# Altium integrated library RF.IntLib: 42 symbols
Pins are listed as number, name and electrical type; pins without a type are passive.

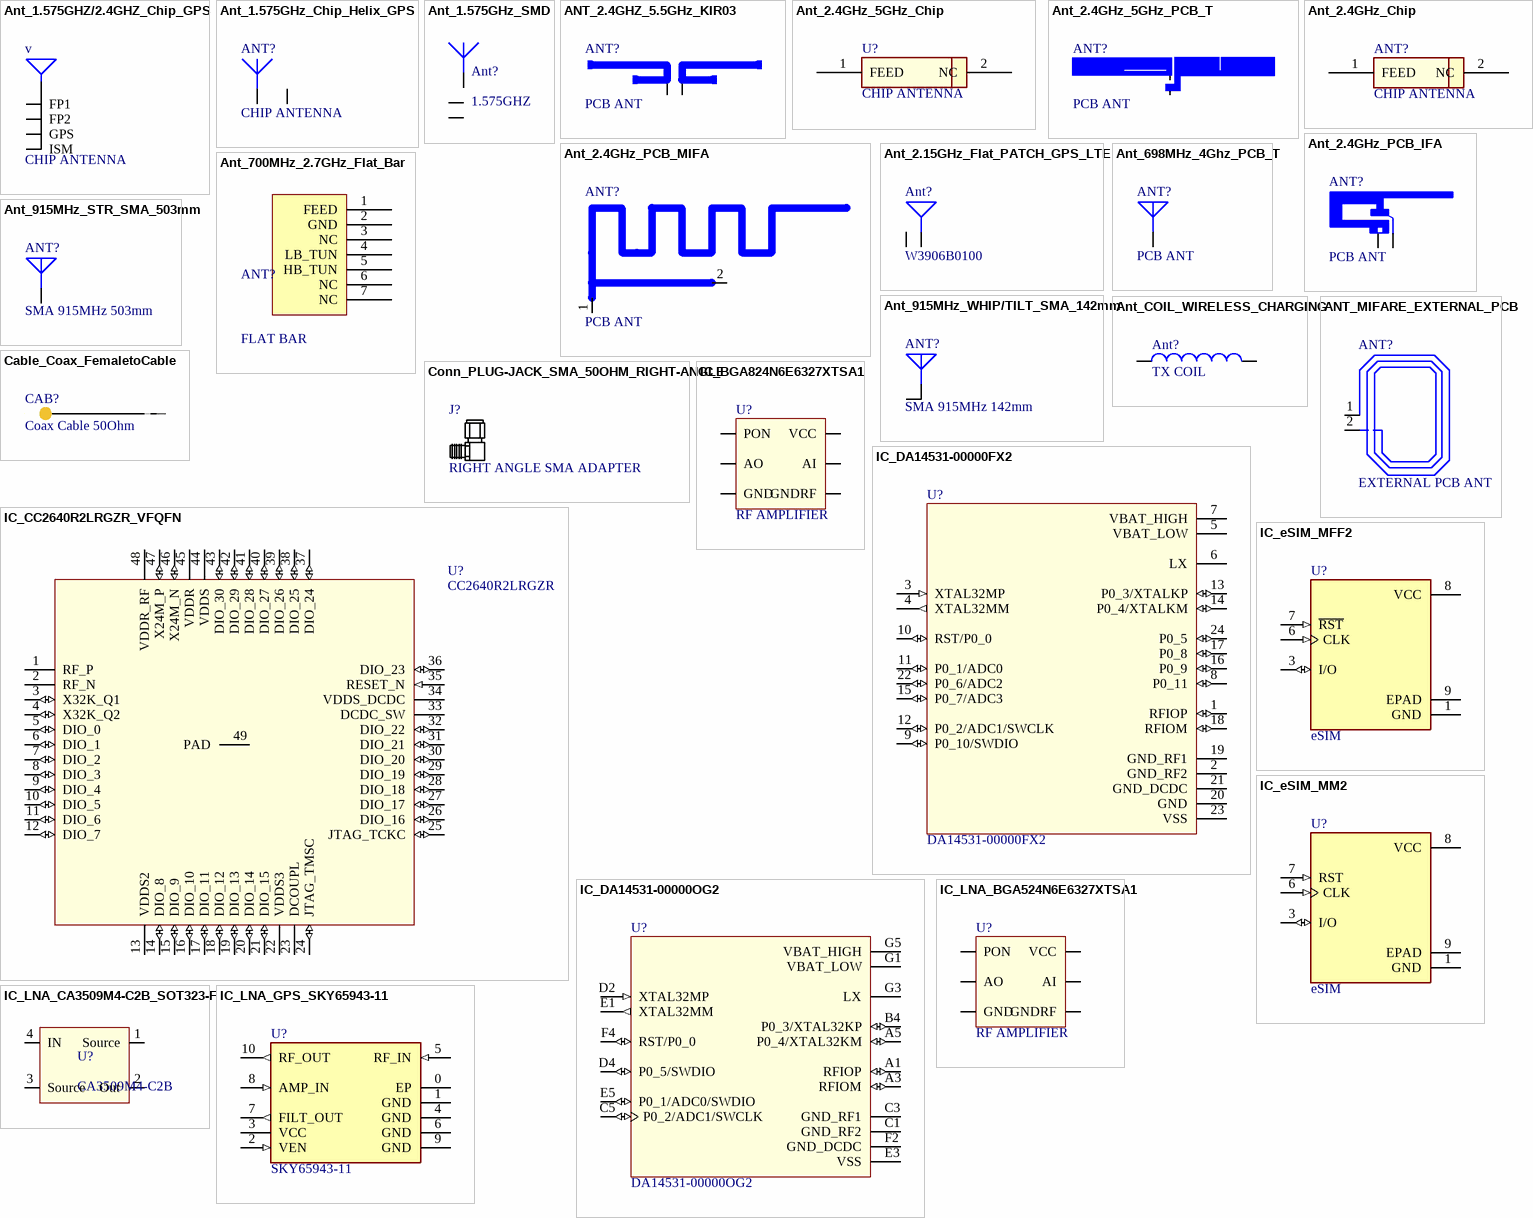
[diagram p0: symbols Ant_1.575GHZ/2.4GHZ_Chip_GPS to IC_LNA_GPS_SKY65943-11]

## Ant_1.575GHZ/2.4GHZ_Chip_GPS
designator v, comment CHIP ANTENNA
RF ANT 1.575GHZ/2.4GHZ CHIP SLD; Manufacturer: TDK Corporation; Manufacturer Part Number: ANT016008LCD1575MA1; Supplier 1: Digikey; Supplier Part Number 1: 445-15174-1-ND; Reel Stock: N/A; Last modified by: J.Jaramillo; Last modified date: 20240310; ComponentLink1Description: Digikey; ComponentLink1URL: https://www.digikey.com/en/products/detail/tdk-corporation/ANT016008LCD1575MA1/4213421?s=N4IgTCBcDaICxwKwFoCMjUHY5uQOQBEQBdAXyA
footprint Ant_1.575GHZ/2.4GHZ_Chip_GPS (/20210422/C-D Viveros)
pins: 1 GPS, 2 FP1, 3 FP2, 4 ISM

## Ant_1.575GHz_Chip_Helix_GPS
designator ANT?, comment CHIP ANTENNA
RF ANT 1.575GHZ MOLDED SLDR SMD; Manufacturer: Molex; Manufacturer Part Number: 1462350001; Supplier 1: Digikey; Supplier Part Number 1: WM15009CT-ND; Reel Stock: N/A; Last modified by: J.Jaramillo; Last modified date: 20240310; ComponentLink1Description: Digikey; ComponentLink1URL: https://www.digikey.com/en/products/detail/molex/1462350001/6159253?s=N4IgTCBcDaIIwBYBsYDMBWADNuIC6AvkA
footprint ANT_1.575GHz_Chip_Helix_GPS (/20201007/J-E.Pachon)
pins: 0 SP, 1

## Ant_1.575GHz_SMD
designator Ant?, comment 1.575GHZ
IC_LNA_CA3509M4-C2B_SOT323-F; Manufacturer: Abracon LLC; Manufacturer Part Number: ACAG0301-1575-T; Supplier 1: Digi-Key; Supplier Part Number 1: 535-14486-1-ND; Reel Stock: N/A; Last modified by: J.Jaramillo; Last modified date: 20240310; ComponentLink1Description: Digi-Key; ComponentLink1URL: https://www.digikey.com/en/products/detail/abracon-llc/ACAG0301-1575-T/8593241
footprint ANT_1.575GHz_SMD (20230919/J-E.Pachon)
pins: 1, 2, 3

## ANT_2.4GHZ_5.5GHz_KIR03
designator ANT?, comment PCB ANT  (no BOM)
Antenna dual band KIR03; Reel Stock: N/A; Last modified by: J.Jaramillo; Last modified date: 20240310
footprint ANT_2.4GHZ_5.5GHz_KIR03 (/20220325/V-A.Patino)
pins: 1 GND, 2 ANT

## Ant_2.4GHz_5GHz_Chip
designator U?, comment CHIP ANTENNA
RF ANT 2.4GHZ/5.5GHZ CHIP SLD; Manufacturer: PulseLarsen Antennas; Manufacturer Part Number: W3006; Supplier 1: Digi-Key; Supplier Part Number 1: 553-1673-1-ND; Reel Stock: N/A; Last modified by: J.Jaramillo; Last modified date: 20240310; ComponentLink1Description: Digi-Key; ComponentLink1URL: https://www.digikey.com/products/en?keywords=553-1673-1-ND
footprint ANT_W3006_2.4GHz_5GHz (/20200812/M-C.Calderon)
pins: 1 FEED, 2 NC

## Ant_2.4GHz_5GHz_PCB_T
designator ANT?, comment PCB ANT  (no BOM)
T Antenna; Reel Stock: N/A; Last modified by: J.Jaramillo; Last modified date: 20240310
footprint ANT_T_2.4GHZ_5.5GHz_Yageo (/ 20200619 / N-A.Potosi)
pins: 1 ANT, 2 GND

## Ant_2.4GHz_Chip
designator ANT?, comment CHIP ANTENNA
2.4GHz  Chip RF Antenna 2.4GHz ~ 2.48GHz 0.5dBi Solder Surface Mount; Manufacturer: Johanson Technology Inc.; Manufacturer Part Number: 2450AT14A0100T; Supplier 1: Digi-Key; Supplier Part Number 1: 712-1636-1-ND; Last Modified by: J.Jaramillo; Last modified date: 20240310; Reel Stock: N/A; ComponentLink1Description: Digikey; ComponentLink1URL: https://www.digikey.com/en/products/detail/johanson-technology-inc/2450AT14A0100T/7943534
footprint ANT_2.4GHZ_CHIP (/20210113/J-E.Pachon)
pins: 1 FEED, 2 NC

## Ant_2.4GHz_PCB_IFA
designator ANT?, comment PCB ANT
IFA antenna designed by TI notes; Reel Stock: N/A; Last modified by: J.Jaramillo; Last modified date: 20240310
footprint ANT_IFA_2.4GHZ_TI
pins: 1 GND, 2 ANT

## Ant_2.4GHz_PCB_MIFA
designator ANT?, comment PCB ANT
MIFA antenna designed by CYPRESS notes; Reel Stock: N/A; Last modified by: J.Jaramillo; Last modified date: 20240310; ComponentLink1Description: Design notes; ComponentLink1URL: https://www.cypress.com/file/136236/download
footprint ANT_MIFA_2.4GHz (/20191204/C-A.Serna.A)
pins: 1, 2

## Ant_2.15GHz_Flat_PATCH_GPS_LTE
designator Ant?, comment W3906B0100  (mechanical)
RF ANT 2.15GHZ FLAT PATCH CAB; Manufacturer: PulseLarsen Antennas; Manufacturer Part Number: W3906B0100; Supplier 1: Digi-Key; Supplier Part Number 1: 1837-1002-ND; Reel Stock: N/A; Last modified by: J.Jaramillo; Last modified date: 20240310; ComponentLink1Description: Digi-Key; ComponentLink1URL: https://www.digikey.com/en/products/detail/W3906B0100/1837-1002-ND/7667473?curr=usd&utm_campaign=buynow&utm_medium=aggregator&utm_source=octopart
pins: 1 GPS, 2 LTE

## Ant_698MHz_4Ghz_PCB_T
designator ANT?, comment PCB ANT  (mechanical)
698 - 4000MHZ FLEXIBLE ANTENNA 1; Manufacturer: Molex; Manufacturer Part Number: 2091420180; Supplier 1: Digikey; Supplier Part Number 1: WM26399-ND; Reel Stock: N/A; Last modified by: J.Jaramillo; Last modified date: 20240310; ComponentLink1Description: Digikey; ComponentLink1URL: https://www.digikey.com/en/products/detail/molex/2091420180/10057542
pins: 30

## Ant_700MHz_2.7GHz_Flat_Bar
designator ANT?, comment FLAT BAR
RF ANT 700MHZ/750MHZ FLAT BAR; Manufacturer: Ethertronics/AVX; Manufacturer Part Number: P822601; Last modified by: J.Jaramillo; Last modified date: 20240310; Supplier 1: Digi-Key; Supplier Part Number 1: 478-P822601CT-ND; Reel Stock: N/A; ComponentLink1Description: Digikey; ComponentLink1URL: https://www.digikey.com/en/products/detail/ethertronics-avx/P822601/5452864
footprint ANT_700MHz_2.7GHz_Flat_Bar (/20201007/J-E.Pachon)
pins: 1 FEED, 2 GND, 3 NC, 4 LB_TUN, 5 HB_TUN, 6 NC, 7 NC

## Ant_915MHz_STR_SMA_503mm
designator ANT?, comment SMA 915MHz 503mm  (mechanical)
RF ANT 915MHZ WHIP STR SMA MALE; Manufacturer: Nearson Inc.; Manufacturer Part Number: S469AM-915; Supplier 1: Digi-key; Supplier Part Number 1: 730-1055-ND; Reel Stock: N/A; Last modified by: J.Jaramillo; Last modified date: 20240310; ComponentLink1Description: Design notes; ComponentLink1URL: https://www.digikey.com/product-detail/en/nearson-inc/S469AM-915/730-1055-ND/4571857

## Ant_915MHz_WHIP/TILT_SMA_142mm
designator ANT?, comment SMA 915MHz 142mm  (mechanical)
RF ANT 916MHZ WHIP TILT SMA MALE; Manufacturer: Linx Technologies Inc.; Manufacturer Part Number: ANT-916-CW-HWR-SMA; Supplier 1: Digi-key; Supplier Part Number 1: ANT-916-CW-HWR-SMA-ND; Reel Stock: N/A; Last modified by: J.Jaramillo; Last modified date: 20240310; ComponentLink1Description: Design notes; ComponentLink1URL: https://www.digikey.com/products/en?keywords=ANT-916-CW-HWR-SMA-ND

## Ant_COIL_WIRELESS_CHARGING
designator Ant?, comment TX COIL
TX 1 COIL, 1 LYR 10.5UH; Manufacturer: TDK Corporation; Manufacturer Part Number: WT525225-12F2-MA2-G; Supplier 1: Digi-Key; Supplier Part Number 1: 445-175301-ND; Reel Stock: N/A; Last modified by: J.Jaramillo; Last modified date: 20240310; ComponentLink1Description: Digi-Key; ComponentLink1URL: https://www.digikey.com/en/products/detail/tdk-corporation/WT525225-12F2-MA2-G/8019497?s=N4IgTCBcDaIOoBUCsYWoLQEYwDEzoFkBBfAcRAF0BfIA
footprint Ant_COIL_WIRELESS_CHARGING (20220805 / E.Naranjo)
pins: LX1, LX2

## ANT_MIFARE_EXTERNAL_PCB
designator ANT?, comment EXTERNAL PCB ANT  (mechanical)
EXTERNAL PCB ATENNA MIFARE V1R2; Reel Stock: N/A; Last modified by: J.Jaramillo; Last modified date: 20240310
footprint ANT_MIFARE_PCB
pins: 1, 2

## Cable_Coax_FemaletoCable
designator CAB?, comment Coax Cable 50Ohm  (mechanical)
IPEX FOR 1.13 CABLE ASSY 120mm; Manufacturer: Xin xiang lu electronic; Manufacturer Part Number: YS030-0017; Supplier 1: Poshton; Supplier Part Number 1: YS030-0017; Reel Stock: N/A; Last modified by: J.Jaramillo; Last modified date: 20240310

## Conn_PLUG-JACK_SMA_50OHM_RIGHT-ANGLE
designator J?, comment RIGHT ANGLE SMA ADAPTER  (mechanical)
CONN ADAPT PLUG-JACK SMA 50 OHM; Manufacturer: RF Solutions; Manufacturer Part Number: ADP-SMAM-SMAF90; Supplier 1: Digi-key; Supplier Part Number 1: ADP-SMAM-SMAF90-ND; Reel Stock: N/A; Last modified by: J.Jaramillo; Last modified date: 20240310; ComponentLink1Description: Design notes; ComponentLink1URL: https://www.digikey.com/products/en?keywords=ANT-916-CW-HWR-SMA-ND

## IC_BGA824N6E6327XTSA1
designator U?, comment RF AMPLIFIER
IC AMP GALIL 1.55-1.615GHZ TSNP6; Manufacturer: Infineon Technologies; Manufacturer Part Number: BGA824N6E6327XTSA1; Last modified by: J.Jaramillo; Last modified date: 20240310; Supplier 1: Digikey; Supplier Part Number 1: BGA824N6E6327XTSA1CT-ND; Reel Stock: N/A; ComponentLink1Description: Digikey; ComponentLink1URL: https://www.digikey.com/en/products/detail/infineon-technologies/BGA824N6E6327XTSA1/4759555
footprint TSNP-6-2_0.7x1.1MM (TSNP-6-2/20210524/J-E.Pachon)
pins: 1 GND, 2 VCC, 3 AO, 4 GNDRF, 5 AI, 6 PON

## IC_CC2640R2LRGZR_VFQFN
designator U?, comment CC2640R2LRGZR
SIMPLELINK BLUETOOTH 5.1 LOW ENE; Manufacturer: Texas Instruments; Reel Stock: N/A; Last modified by: J.Jaramillo; Last modified date: 20240310; ComponentLink1Description: Digi-Key; ComponentLink1URL: https://www.digikey.com/en/products/detail/texas-instruments/CC2640R2LRGZR/12642196?s=N4IgTCBcDaIMJzANgCwAYBKYAyGDiAWhiALoC%2BQA; Supplier 1: Digi-Key; Manufacturer Part Number: CC2640R2LRGZR; Supplier Part Number 1: 296-CC2640R2LRGZRCT-ND
footprint VQFN_48_7X7MM (48-VFQFN Exposed Pad/ 20210323 / N-A.Potosi)
pins: 1 RF_P (power), 2 RF_N (power), 3 X32K_Q1 (io), 4 X32K_Q2 (io), 5 DIO_0 (io), 6 DIO_1 (io), 7 DIO_2 (io), 8 DIO_3 (io), 9 DIO_4 (io), 10 DIO_5 (io), 11 DIO_6 (io), 12 DIO_7 (io), 13 VDDS2 (power), 14 DIO_8 (io), 15 DIO_9 (io), 16 DIO_10 (io), 17 DIO_11 (io), 18 DIO_12 (io), 19 DIO_13 (io), 20 DIO_14 (io), 21 DIO_15 (io), 22 VDDS3 (power), 23 DCOUPL (power), 24 JTAG_TMSC (io), 25 JTAG_TCKC (io), 26 DIO_16 (io), 27 DIO_17 (io), 28 DIO_18 (io), 29 DIO_19 (io), 30 DIO_20 (io), 31 DIO_21 (io), 32 DIO_22 (io), 33 DCDC_SW (power), 34 VDDS_DCDC (power), 35 RESET_N (in), 36 DIO_23 (io), 37 DIO_24 (io), 38 DIO_25 (io), 39 DIO_26 (io), 40 DIO_27 (io), 41 DIO_28 (io), 42 DIO_29 (io), 43 DIO_30 (io), 44 VDDS (power), 45 VDDR (power), 46 X24M_N (io), 47 X24M_P (io), 48 VDDR_RF (power), 49 PAD (power)

## IC_DA14531-00000FX2
designator U?, comment DA14531-00000FX2
BLE 5.1 SOC WITH ARM CORTEX M0+; Manufacturer: Dialog Semiconductor GmbH; Manufacturer Part Number: DA14531-00000FX2; Supplier 1: Digi-Key; Supplier Part Number 1: 1695-DA14531-00000FX2CT-ND; Last modified by: J.Jaramillo; Last modified date: 20240310; Reel Stock: N/A; ComponentLink1Description: Digi-Key; ComponentLink1URL: https://www.digikey.com/en/products/detail/dialog-semiconductor-gmbh/DA14531-00000FX2/10474881
footprint FCGQFN-24_2.2X3MM (/20210621/J-E.Pachon)
pins: 1 RFIOP (io), 2 GND_RF2, 3 XTAL32MP (in), 4 XTAL32MM (out), 5 VBAT_LOW, 6 LX, 7 VBAT_HIGH, 8 P0_11 (io), 9 P0_10/SWDIO (io), 10 RST/P0_0 (io), 11 P0_1/ADC0 (io), 12 P0_2/ADC1/SWCLK (io), 13 P0_3/XTALKP (io), 14 P0_4/XTALKM (io), 15 P0_7/ADC3 (io), 16 P0_9 (io), 17 P0_8 (io), 18 RFIOM (io), 19 GND_RF1, 20 GND, 21 GND_DCDC, 22 P0_6/ADC2 (io), 23 VSS, 24 P0_5 (io)

## IC_DA14531-00000OG2
designator U?, comment DA14531-00000OG2
BLE 5.1 SOC WITH ARM CORTEX M0+; Manufacturer: Dialog Semiconductor GmbH; Manufacturer Part Number: DA14531-00000OG2; Supplier 1: Digi-key; Supplier Part Number 1: 1695-DA14531-00000OG2TR-ND; Last modified by: J.Jaramillo; Last modified date: 20240310; ComponentLink1Description: Digi-Key; ComponentLink1URL: https://www.digikey.com/en/products/detail/dialog-semiconductor-gmbh/DA14531-00000OG2/10474922?s=N4IgTCBcDaICIEECMAWArAZiQWgAz-wHkBxCAXQF8g; Reel Stock: N/A
footprint XFBGA_17_2.032x1.694MM (17-WLCSP/ 20210524 / J-E.Pachon)
pins: A1 RFIOP (io), A3 RFIOM (io), A5 P0_4/XTAL32KM (io), B4 P0_3/XTAL32KP (io), C1 GND_RF2 (power), C3 GND_RF1 (power), C5 P0_2/ADC1/SWCLK (io), D2 XTAL32MP (in), D4 P0_5/SWDIO (io), E1 XTAL32MM (out), E3 VSS (power), E5 P0_1/ADC0/SWDIO (io), F2 GND_DCDC (power), F4 RST/P0_0 (io), G1 VBAT_LOW (power), G3 LX, G5 VBAT_HIGH (power)

## IC_eSIM_MFF2
designator U?, comment eSIM
MFF2 SIM FOR LTE-M IOT; Manufacturer: Truphone Limited; Manufacturer Part Number: SIM-S-IO3-MFF2-2-LP; Supplier 1: Digi-key; Supplier Part Number 1: 2322-SIM-S-IO3-MFF2-2-LPCT-ND; Last modified by: J.Jaramillo; Last modified date: 20240310; ComponentLink1Description: Datasheet; ComponentLink1URL: https://www.digikey.com/en/products/detail/truphone-limited/SIM-S-IO3-MFF2-2-LP/11568182?s=N4IgTCBcDaIMoEkCyBaOKEHkDMKkDF8wViAZABRAF0BfIA; Reel Stock: N/A
footprint QFN8_6x5MM_SIM (/20210524/ J-E.Pachon)
pins: 1 GND (power), 3 I/O (io), 6 CLK (in), 7 ~{RST} (in), 8 VCC (power), 9 EPAD

## IC_eSIM_MM2
designator U?, comment eSIM
EUICC MFF2 SIM WITH GLOBAL SIM P; Manufacturer: Hologram, Inc.; Manufacturer Part Number: SIM-E-MFF2-GL; Supplier 1: Digi-key; Supplier Part Number 1: 1887-SIM-E-MFF2-GLCT-ND; Last modified by: J.Jaramillo; Last modified date: 20240310; ComponentLink1Description: Datasheet; ComponentLink1URL: https://www.digikey.com/en/products/detail/hologram-inc/SIM-E-MFF2-GL/12458891; Reel Stock: N/A
footprint QFN8_6x5MM_SIM (/20210524/ J-E.Pachon)
pins: 1 GND (power), 3 I/O (io), 6 CLK (in), 7 RST (in), 8 VCC (power), 9 EPAD

## IC_LNA_BGA524N6E6327XTSA1
designator U?, comment RF AMPLIFIER
IC AMP GPS 1.55-1.615GHZ TSNP6-2; Manufacturer: Infineon Technologies; Manufacturer Part Number: BGA524N6E6327XTSA1; Last modified by: J.Jaramillo; Last modified date: 20240310; Supplier 1: Digikey; Supplier Part Number 1: BGA524N6E6327XTSA1CT-ND; Reel Stock: N/A; ComponentLink1Description: Digikey; ComponentLink1URL: https://www.digikey.com/en/products/detail/infineon-technologies/BGA524N6E6327XTSA1/4759552?s=N4IgTCBcDaIEIHECCBWMAWAcgNgKLYGYwB2ADQBUBlJARhAF0BfIA
footprint TSNP-6-2_0.7x1.1MM (TSNP-6-2/20210524/J-E.Pachon)
pins: 1 GND, 2 VCC, 3 AO, 4 GNDRF, 5 AI, 6 PON

## IC_LNA_CA3509M4-C2B_SOT323-F
designator U?, comment CA3509M4-C2B
IC AMP BEIDOU 1.575GHZ 4SUPMIN; Manufacturer: CEL; Manufacturer Part Number: CA3509M4-C2B; Supplier 1: Digi-Key; Supplier Part Number 1: CA3509M4-C2BCT-ND; Reel Stock: N/A; Last modified by: J.Jaramillo; Last modified date: 20240310; ComponentLink1Description: Digi-Key; ComponentLink1URL: https://www.digikey.com/en/products/detail/cel/CA3509M4-C2B/10129392
footprint SOT-343-F (20230919/J-E.Pachon)
pins: 1 Source, 2 Out, 3 Source, 4 IN

## IC_LNA_GPS_SKY65943-11
designator U?, comment SKY65943-11
GPS LNA MODULE; Manufacturer: Skyworks Solutions Inc.; Manufacturer Part Number: SKY65943-11; Supplier 1: Digi-Key; Supplier Part Number 1: 863-2032-1-ND; Reel Stock: N/A; Last modified by: J.Jaramillo; Last modified date: 20240310; ComponentLink1Description: Digi-Key; ComponentLink1URL: https://www.digikey.com/en/products/detail/skyworks-solutions-inc/SKY65943-11/9603434
footprint MCM-10_2.5x2.5mm (/20220615/V-A.Patino)
pins: 0 EP, 1 GND, 2 VEN (in), 3 VCC, 4 GND, 5 RF_IN (in), 6 GND, 7 FILT_OUT (out), 8 AMP_IN (in), 9 GND, 10 RF_OUT (out)

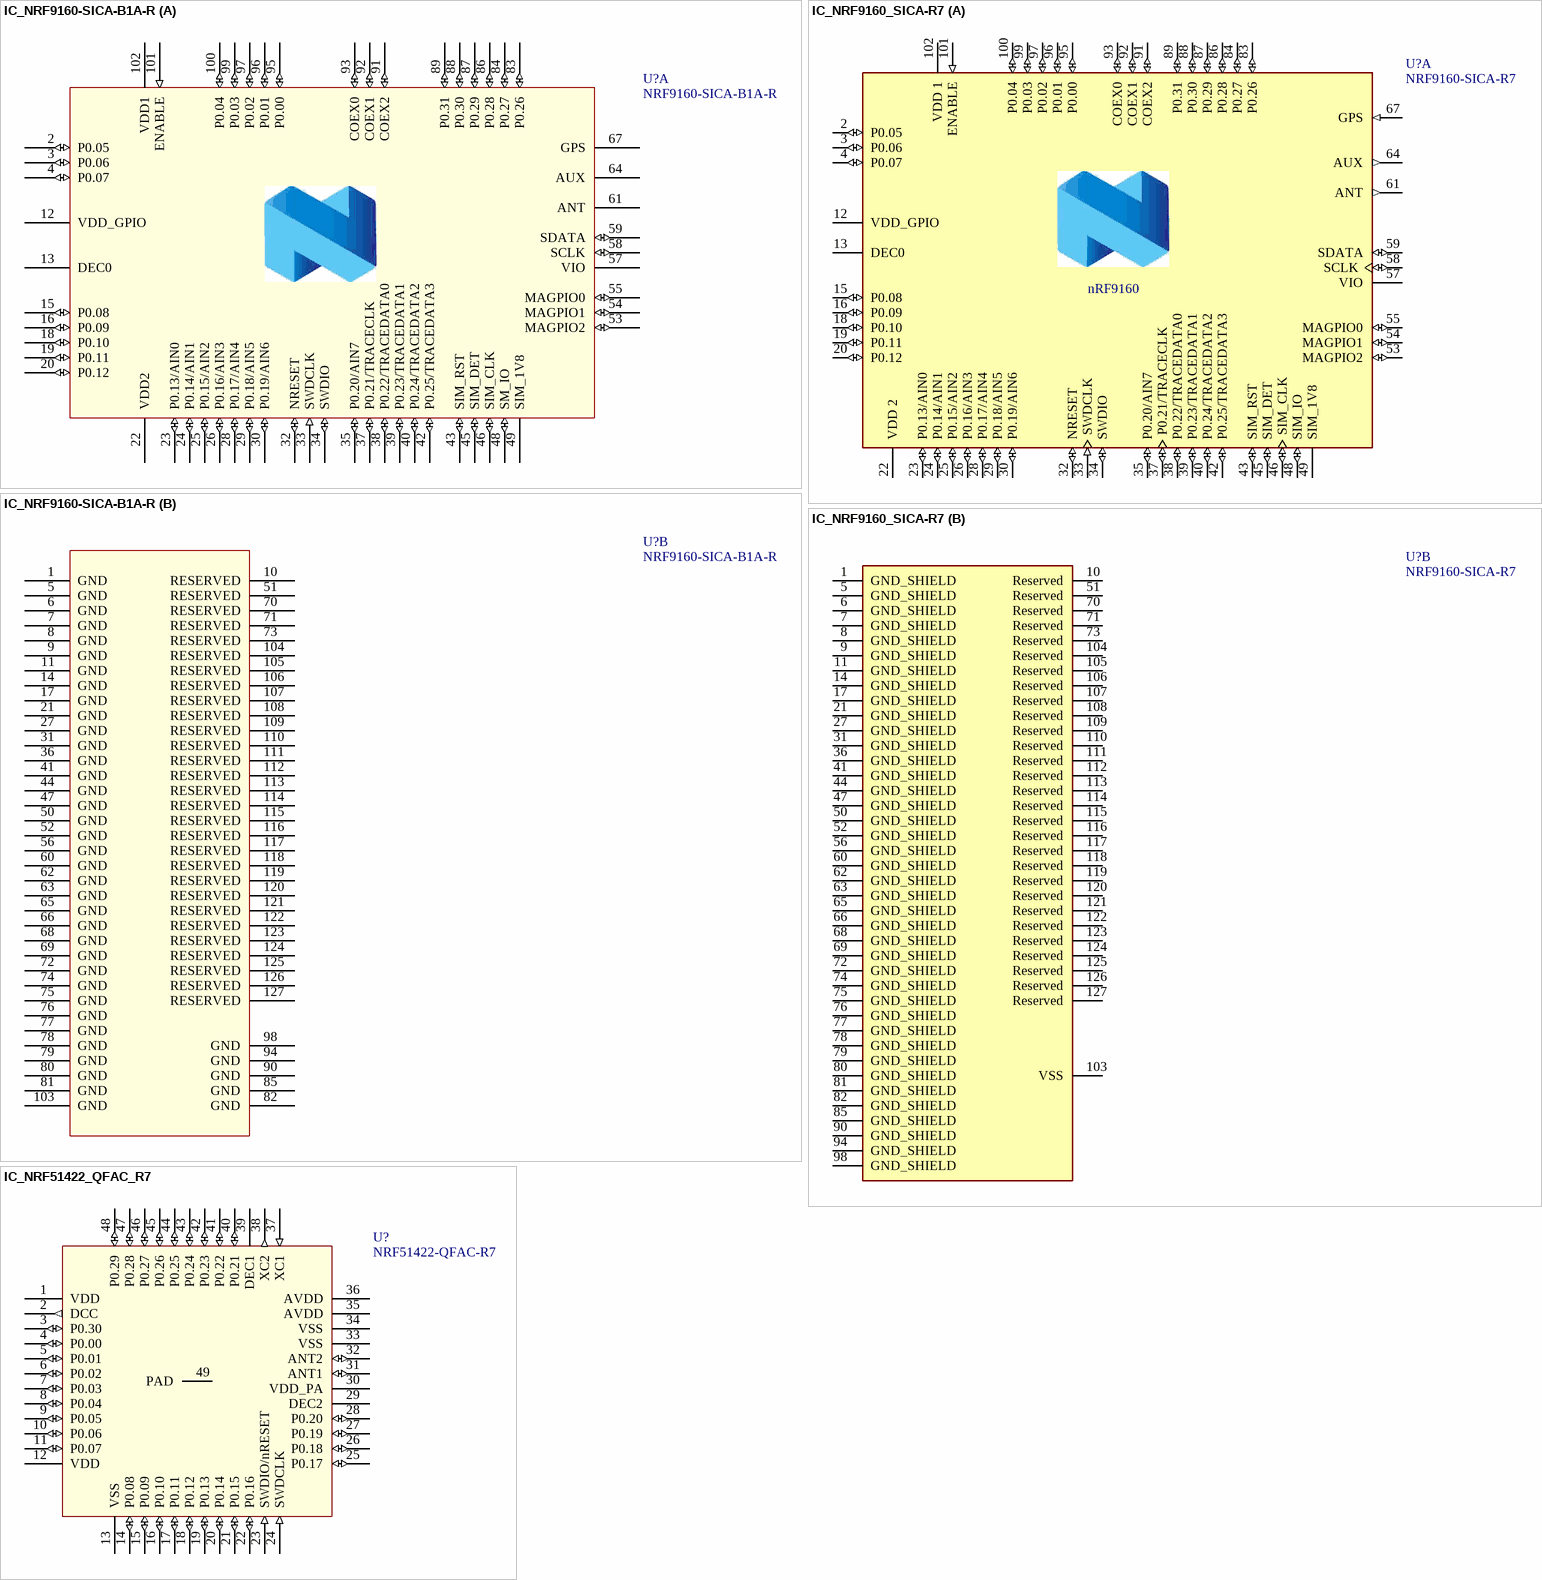
[diagram p1: symbols IC_NRF9160-SICA-B1A-R to IC_NRF51422_QFAC_R7]

## IC_NRF9160-SICA-B1A-R
designator U?, comment NRF9160-SICA-B1A-R
IC RF TXRX+MCU CELL LTE-M/NB-IOT; Manufacturer: Nordic Semiconductor ASA; Manufacturer Part Number: NRF9160-SICA-B1A-R; Supplier 1: Digi-Key; Supplier Part Number 1: 1490-NRF9160-SICA-B1A-RCT-ND; Reel Stock: N/A; Last modified by: J.Jaramillo; Last modified date: 20240310; ComponentLink1Description: Digi-Key; ComponentLink1URL: https://www.digikey.com/en/products/detail/nordic-semiconductor-asa/NRF9160-SICA-B1A-R/13533595
footprint TFLGA-16_NRF9160 (TFLGA-16_127-LGA (16x10.5) /20201016/N-A.Potosi)
part A pins: 2 P0.05 (io), 3 P0.06 (io), 4 P0.07 (io), 12 VDD_GPIO (power), 13 DEC0 (power), 15 P0.08 (io), 16 P0.09 (io), 18 P0.10 (io), 19 P0.11 (io), 20 P0.12 (io), 22 VDD2 (power), 23 P0.13/AIN0 (io), 24 P0.14/AIN1 (io), 25 P0.15/AIN2 (io), 26 P0.16/AIN3 (io), 28 P0.17/AIN4 (io), 29 P0.18/AIN5 (io), 30 P0.19/AIN6 (io), 32 NRESET (io), 33 SWDCLK (in), 34 SWDIO (io), 35 P0.20/AIN7 (io), 37 P0.21/TRACECLK (io), 38 P0.22/TRACEDATA0 (io), 39 P0.23/TRACEDATA1 (io), 40 P0.24/TRACEDATA2 (io), 42 P0.25/TRACEDATA3 (io), 43 SIM_RST (io), 45 SIM_DET (io), 46 SIM_CLK (io), 48 SM_IO (io), 49 SIM_1V8 (power), 53 MAGPIO2 (io), 54 MAGPIO1 (io), 55 MAGPIO0 (io), 57 VIO (power), 58 SCLK (io), 59 SDATA (io), 61 ANT, 64 AUX, 67 GPS, 83 P0.26 (io), 84 P0.27 (io), 86 P0.28 (io), 87 P0.29 (io), 88 P0.30 (io), 89 P0.31 (io), 91 COEX2 (io), 92 COEX1 (io), 93 COEX0 (io), 95 P0.00 (io), 96 P0.01 (io), 97 P0.02 (io), 99 P0.03 (io), 100 P0.04 (io), 101 ENABLE (in), 102 VDD1 (power)
part B pins: 1 GND, 5 GND, 6 GND, 7 GND, 8 GND, 9 GND, 10 RESERVED, 11 GND, 14 GND, 17 GND, 21 GND, 27 GND, 31 GND, 36 GND, 41 GND, 44 GND, 47 GND, 50 GND, 51 RESERVED, 52 GND, 56 GND, 60 GND, 62 GND, 63 GND, 65 GND, 66 GND, 68 GND, 69 GND, 70 RESERVED, 71 RESERVED, 72 GND, 73 RESERVED, 74 GND, 75 GND, 76 GND, 77 GND, 78 GND, 79 GND, 80 GND, 81 GND, 82 GND, 85 GND, 90 GND, 94 GND, 98 GND, 103 GND, 104 RESERVED, 105 RESERVED, 106 RESERVED, 107 RESERVED, 108 RESERVED, 109 RESERVED, 110 RESERVED, 111 RESERVED, 112 RESERVED, 113 RESERVED, 114 RESERVED, 115 RESERVED, 116 RESERVED, 117 RESERVED, 118 RESERVED, 119 RESERVED, 120 RESERVED, 121 RESERVED, 122 RESERVED, 123 RESERVED, 124 RESERVED, 125 RESERVED, 126 RESERVED, 127 RESERVED

## IC_NRF9160_SICA-R7
designator U?, comment NRF9160-SICA-R7
IC RF TXRX+MCU CELL LTE-M/NB-IOT; Manufacturer: Nordic Semiconductor ASA; Reel Stock: N/A; Last modified by: J.Jaramillo; Last modified date: 20240310; ComponentLink1Description: Digi-Key; ComponentLink1URL: https://www.digikey.com/product-detail/en/nordic-semiconductor-asa/NRF9160-SICA-R7/1490-1076-1-ND/10242086; Supplier 1: Digi-Key; Manufacturer Part Number: NRF9160-SICA-R7; Supplier Part Number 1: 1490-1076-1-ND
footprint TFLGA-16_NRF9160 (TFLGA-16_127-LGA (16x10.5) /20201016/N-A.Potosi)
part A pins: 2 P0.05 (io), 3 P0.06 (io), 4 P0.07 (io), 12 VDD_GPIO (power), 13 DEC0 (power), 15 P0.08 (io), 16 P0.09 (io), 18 P0.10 (io), 19 P0.11 (io), 20 P0.12 (io), 22 VDD 2 (power), 23 P0.13/AIN0 (io), 24 P0.14/AIN1 (io), 25 P0.15/AIN2 (io), 26 P0.16/AIN3 (io), 28 P0.17/AIN4 (io), 29 P0.18/AIN5 (io), 30 P0.19/AIN6 (io), 32 NRESET (io), 33 SWDCLK (in), 34 SWDIO (io), 35 P0.20/AIN7 (io), 37 P0.21/TRACECLK (io), 38 P0.22/TRACEDATA0 (io), 39 P0.23/TRACEDATA1 (io), 40 P0.24/TRACEDATA2 (io), 42 P0.25/TRACEDATA3 (io), 43 SIM_RST (io), 45 SIM_DET (io), 46 SIM_CLK (io), 48 SIM_IO (io), 49 SIM_1V8 (power), 53 MAGPIO2 (io), 54 MAGPIO1 (io), 55 MAGPIO0 (io), 57 VIO (power), 58 SCLK (io), 59 SDATA (io), 61 ANT (out), 64 AUX (out), 67 GPS (in), 83 P0.26 (io), 84 P0.27 (io), 86 P0.28 (io), 87 P0.29 (io), 88 P0.30 (io), 89 P0.31 (io), 91 COEX2 (io), 92 COEX1 (io), 93 COEX0 (io), 95 P0.00 (io), 96 P0.01 (io), 97 P0.02 (io), 99 P0.03 (io), 100 P0.04 (io), 101 ENABLE (in), 102 VDD 1 (power)
part B pins: 1 GND_SHIELD (power), 5 GND_SHIELD (power), 6 GND_SHIELD (power), 7 GND_SHIELD (power), 8 GND_SHIELD (power), 9 GND_SHIELD (power), 10 Reserved (power), 11 GND_SHIELD (power), 14 GND_SHIELD (power), 17 GND_SHIELD (power), 21 GND_SHIELD (power), 27 GND_SHIELD (power), 31 GND_SHIELD (power), 36 GND_SHIELD (power), 41 GND_SHIELD (power), 44 GND_SHIELD (power), 47 GND_SHIELD (power), 50 GND_SHIELD (power), 51 Reserved (power), 52 GND_SHIELD (power), 56 GND_SHIELD (power), 60 GND_SHIELD (power), 62 GND_SHIELD (power), 63 GND_SHIELD (power), 65 GND_SHIELD (power), 66 GND_SHIELD (power), 68 GND_SHIELD (power), 69 GND_SHIELD (power), 70 Reserved (power), 71 Reserved (power), 72 GND_SHIELD (power), 73 Reserved (power), 74 GND_SHIELD (power), 75 GND_SHIELD (power), 76 GND_SHIELD (power), 77 GND_SHIELD (power), 78 GND_SHIELD (power), 79 GND_SHIELD (power), 80 GND_SHIELD (power), 81 GND_SHIELD (power), 82 GND_SHIELD (power), 85 GND_SHIELD (power), 90 GND_SHIELD (power), 94 GND_SHIELD (power), 98 GND_SHIELD (power), 103 VSS (power), 104 Reserved (power), 105 Reserved (power), 106 Reserved (power), 107 Reserved (power), 108 Reserved (power), 109 Reserved (power), 110 Reserved (power), 111 Reserved (power), 112 Reserved (power), 113 Reserved (power), 114 Reserved (power), 115 Reserved (power), 116 Reserved (power), 117 Reserved (power), 118 Reserved (power), 119 Reserved (power), 120 Reserved (power), 121 Reserved (power), 122 Reserved (power), 123 Reserved (power), 124 Reserved (power), 125 Reserved (power), 126 Reserved (power), 127 Reserved (power)
part A text: nRF9160

## IC_NRF51422_QFAC_R7
designator U?, comment NRF51422-QFAC-R7
IC RF TXRX+MCU BLUETOOTH 48VFQFN; Manufacturer: Nordic Semiconductor ASA; Reel Stock: N/A; Last modified by: J.Jaramillo; Last modified date: 20240310; ComponentLink1Description: Digi-Key; ComponentLink1URL: https://www.digikey.com/products/en?keywords=1490-1046-1-ND; Supplier 1: Digi-Key; Manufacturer Part Number: NRF51422-QFAC-R7; Supplier Part Number 1: 1490-1046-1-ND
footprint VFQFN_48_6x6mm (QFN48_6x6mm Exposed Pad/ 20190222 / N-A.Potosi)
pins: 1 VDD (power), 2 DCC (out), 3 P0.30 (io), 4 P0.00 (io), 5 P0.01 (io), 6 P0.02 (io), 7 P0.03 (io), 8 P0.04 (io), 9 P0.05 (io), 10 P0.06 (io), 11 P0.07 (io), 12 VDD (power), 13 VSS (power), 14 P0.08 (io), 15 P0.09 (io), 16 P0.10 (io), 17 P0.11 (io), 18 P0.12 (io), 19 P0.13 (io), 20 P0.14 (io), 21 P0.15 (io), 22 P0.16 (io), 23 SWDIO/nRESET (in), 24 SWDCLK (in), 25 P0.17 (io), 26 P0.18 (io), 27 P0.19 (io), 28 P0.20 (io), 29 DEC2 (power), 30 VDD_PA (power), 31 ANT1 (io), 32 ANT2 (io), 33 VSS (power), 34 VSS (power), 35 AVDD (power), 36 AVDD (power), 37 XC1 (in), 38 XC2 (out), 39 DEC1 (power), 40 P0.21 (io), 41 P0.22 (io), 42 P0.23 (io), 43 P0.24 (io), 44 P0.25 (io), 45 P0.26 (io), 46 P0.27 (io), 47 P0.28 (io), 48 P0.29 (io), 49 PAD (power)

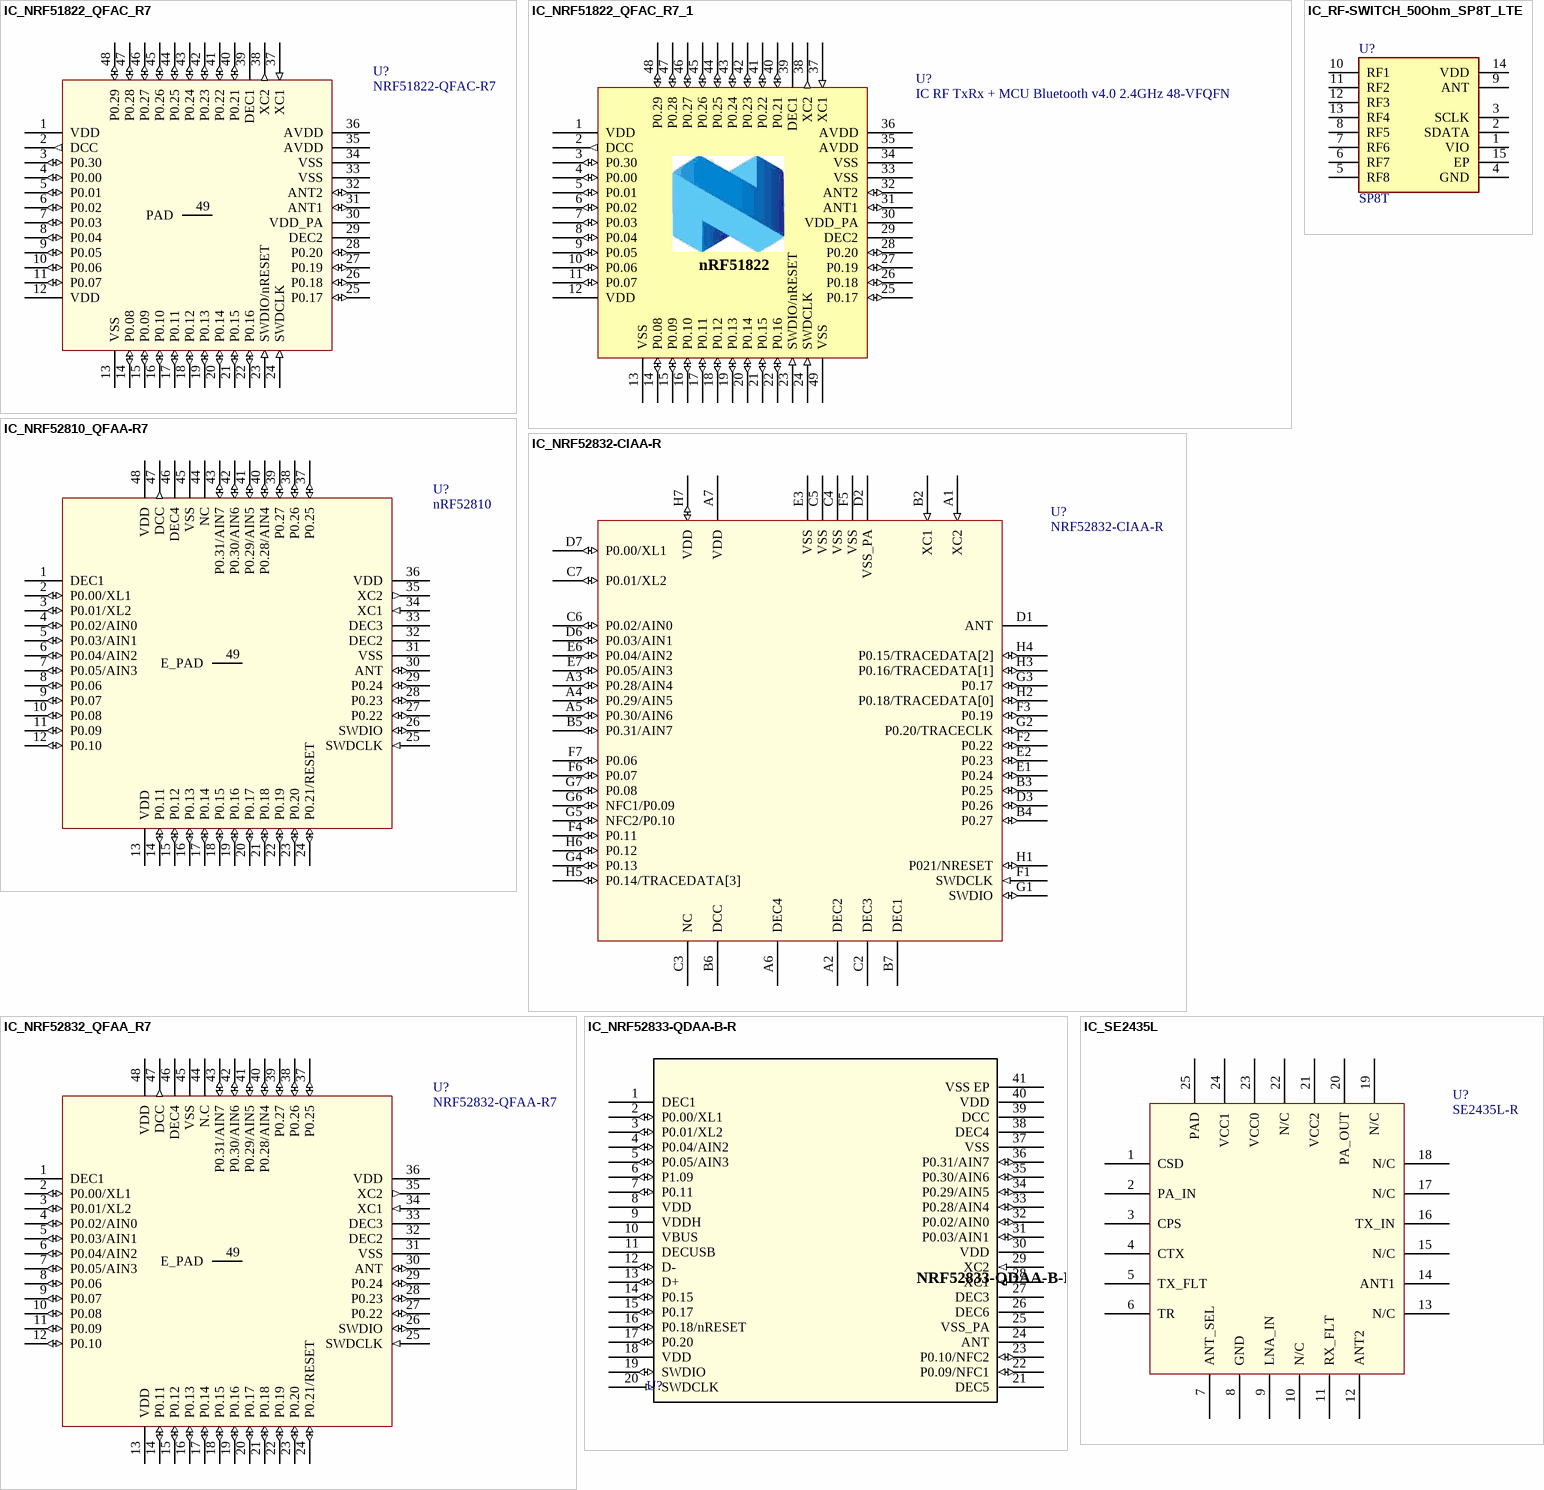
[diagram p2: symbols IC_NRF51822_QFAC_R7 to IC_SE2435L]

## IC_NRF51822_QFAC_R7
designator U?, comment NRF51822-QFAC-R7
IC RF TXRX+MCU BLUETOOTH 48VFQFN; Manufacturer: Nordic Semiconductor ASA; Reel Stock: N/A; Last modified by: J.Jaramillo; Last modified date: 20240310; ComponentLink1Description: Digi-Key; ComponentLink1URL: https://www.digikey.com/product-detail/en/nordic-semiconductor-asa/NRF51822-QFAC-R7/1490-1049-1-ND/5125206; Supplier 1: Digi-Key; Manufacturer Part Number: NRF51822-QFAC-R7; Supplier Part Number 1: 1490-1049-1-ND
footprint VFQFN_48_6x6mm (QFN48_6x6mm Exposed Pad/ 20190222 / N-A.Potosi)
pins: 1 VDD (power), 2 DCC (out), 3 P0.30 (io), 4 P0.00 (io), 5 P0.01 (io), 6 P0.02 (io), 7 P0.03 (io), 8 P0.04 (io), 9 P0.05 (io), 10 P0.06 (io), 11 P0.07 (io), 12 VDD (power), 13 VSS (power), 14 P0.08 (io), 15 P0.09 (io), 16 P0.10 (io), 17 P0.11 (io), 18 P0.12 (io), 19 P0.13 (io), 20 P0.14 (io), 21 P0.15 (io), 22 P0.16 (io), 23 SWDIO/nRESET (in), 24 SWDCLK (in), 25 P0.17 (io), 26 P0.18 (io), 27 P0.19 (io), 28 P0.20 (io), 29 DEC2 (power), 30 VDD_PA (power), 31 ANT1 (io), 32 ANT2 (io), 33 VSS (power), 34 VSS (power), 35 AVDD (power), 36 AVDD (power), 37 XC1 (in), 38 XC2 (out), 39 DEC1 (power), 40 P0.21 (io), 41 P0.22 (io), 42 P0.23 (io), 43 P0.24 (io), 44 P0.25 (io), 45 P0.26 (io), 46 P0.27 (io), 47 P0.28 (io), 48 P0.29 (io), 49 PAD (power)

## IC_NRF51822_QFAC_R7_1
designator U?, comment IC RF TxRx + MCU Bluetooth v4.0 2.4GHz 48-VFQFN
IC RF TXRX+MCU BLUETOOTH 48VFQFN; Manufacturer: Nordic Semiconductor ASA; Manufacturer Part Number: NRF51822-QFAC-R7; Supplier 1: Digi-key; Supplier Part Number 1: 1490-1049-1-ND; Reel Stock: N/A; Last modified by: J.Jaramillo; Last modified date: 20240310; ComponentLink1Description: Digi-key; ComponentLink1URL: https://www.digikey.com/products/en?keywords=1490-1049-1-ND
footprint VFQFN_48_6x6mm (QFN48_6x6mm Exposed Pad/ 20190226 / N-A.Potosi)
pins: 1 VDD (power), 2 DCC (out), 3 P0.30 (io), 4 P0.00 (io), 5 P0.01 (io), 6 P0.02 (io), 7 P0.03 (io), 8 P0.04 (io), 9 P0.05 (io), 10 P0.06 (io), 11 P0.07 (io), 12 VDD (power), 13 VSS (power), 14 P0.08 (io), 15 P0.09 (io), 16 P0.10 (io), 17 P0.11 (io), 18 P0.12 (io), 19 P0.13 (io), 20 P0.14 (io), 21 P0.15 (io), 22 P0.16 (io), 23 SWDIO/nRESET (in), 24 SWDCLK (in), 25 P0.17 (io), 26 P0.18 (io), 27 P0.19 (io), 28 P0.20 (io), 29 DEC2 (power), 30 VDD_PA (power), 31 ANT1 (io), 32 ANT2 (io), 33 VSS (power), 34 VSS (power), 35 AVDD (power), 36 AVDD (power), 37 XC1 (in), 38 XC2 (out), 39 DEC1 (power), 40 P0.21 (io), 41 P0.22 (io), 42 P0.23 (io), 43 P0.24 (io), 44 P0.25 (io), 45 P0.26 (io), 46 P0.27 (io), 47 P0.28 (io), 48 P0.29 (io), 49 VSS (power)
text: nRF51822

## IC_NRF52810_QFAA-R7
designator U?, comment nRF52810
IC RF TXRX+MCU BLUETOOTH 48VFQFN; Manufacturer: Nordic Semiconductor ASA; Manufacturer Part Number: NRF52810-QFAA-R7; Supplier 1: Digi-Key; Supplier Part Number 1: 1490-1064-1-ND; Reel Stock: N/A; Last modified by: J.Jaramillo; Last modified date: 20240310; ComponentLink1Description: Digi-Key; ComponentLink1URL: https://www.digikey.com/en/products/detail/nordic-semiconductor-asa/NRF52810-QFAA-R7/7725408?s=N4IgTCBcDaIIwBYCcAGAtHFA2BG0DkAREAXQF8g
footprint VFQFN_48_6x6mm (QFN48_6x6mm Exposed Pad/ 20190226 / N-A.Potosi)
pins: 1 DEC1 (power), 2 P0.00/XL1 (io), 3 P0.01/XL2 (io), 4 P0.02/AIN0 (io), 5 P0.03/AIN1 (io), 6 P0.04/AIN2 (io), 7 P0.05/AIN3 (io), 8 P0.06 (io), 9 P0.07 (io), 10 P0.08 (io), 11 P0.09 (io), 12 P0.10 (io), 13 VDD (power), 14 P0.11 (io), 15 P0.12 (io), 16 P0.13 (io), 17 P0.14 (io), 18 P0.15 (io), 19 P0.16 (io), 20 P0.17 (io), 21 P0.18 (io), 22 P0.19 (io), 23 P0.20 (io), 24 P0.21/RESET (io), 25 SWDCLK (in), 26 SWDIO (io), 27 P0.22 (io), 28 P0.23 (io), 29 P0.24 (io), 30 ANT (io), 31 VSS (power), 32 DEC2 (power), 33 DEC3 (power), 34 XC1 (in), 35 XC2 (out), 36 VDD (power), 37 P0.25 (io), 38 P0.26 (io), 39 P0.27 (io), 40 P0.28/AIN4 (io), 41 P0.29/AIN5 (io), 42 P0.30/AIN6 (io), 43 P0.31/AIN7 (io), 44 NC (power), 45 VSS (power), 46 DEC4 (power), 47 DCC (out), 48 VDD (power), 49 E_PAD (power)

## IC_NRF52832-CIAA-R
designator U?, comment NRF52832-CIAA-R
IC RF TXRX+MCU ISM>1GHZ 50XFBGA; Manufacturer: Nordic Semiconductor ASA; Reel Stock: N/A; Last modified by: J.Jaramillo; Last modified date: 20240310; ComponentLink1Description: Digi-Key; ComponentLink1URL: https://www.digikey.com/en/products/detail/nordic-semiconductor-asa/NRF52832-CIAA-R/6071167; Supplier 1: Digi-Key; Manufacturer Part Number: NRF52832-CIAA-R; Supplier Part Number 1: 1490-1056-1-ND
footprint XFBGA_50_2.96x3.23MM (WLCSP, 50-WLCSP)
pins: A1 XC2 (in), A2 DEC2 (power), A3 P0.28/AIN4 (io), A4 P0.29/AIN5 (io), A5 P0.30/AIN6 (io), A6 DEC4 (power), A7 VDD (power), B2 XC1 (in), B3 P0.25 (io), B4 P0.27 (io), B5 P0.31/AIN7 (io), B6 DCC (power), B7 DEC1 (power), C2 DEC3 (power), C3 NC, C4 VSS (power), C5 VSS (power), C6 P0.02/AIN0 (io), C7 P0.01/XL2 (io), D1 ANT, D2 VSS_PA (power), D3 P0.26 (io), D6 P0.03/AIN1 (io), D7 P0.00/XL1 (io), E1 P0.24 (io), E2 P0.23 (io), E3 VSS (power), E6 P0.04/AIN2 (io), E7 P0.05/AIN3 (io), F1 SWDCLK (in), F2 P0.22 (io), F3 P0.19 (io), F4 P0.11 (io), F5 VSS (power), F6 P0.07 (io), F7 P0.06 (io), G1 SWDIO (io), G2 P0.20/TRACECLK (io), G3 P0.17 (io), G4 P0.13 (io), G5 NFC2/P0.10 (io), G6 NFC1/P0.09 (io), G7 P0.08 (io), H1 P021/NRESET (io), H2 P0.18/TRACEDATA[0] (io), H3 P0.16/TRACEDATA[1] (io), H4 P0.15/TRACEDATA[2] (io), H5 P0.14/TRACEDATA[3] (io), H6 P0.12 (io), H7 VDD (io)

## IC_NRF52832_QFAA_R7
designator U?, comment NRF52832-QFAA-R7
MULTIPROTOCOL BLUETOOTH SMART; Manufacturer: Nordic Semiconductor ASA; Reel Stock: N/A; Last modified by: J.Jaramillo; Last modified date: 20240310; ComponentLink1Description: Digi-Key; ComponentLink1URL: https://www.digikey.com/products/en?keywords=1490-1067-1-ND; Supplier 1: Digi-Key; Manufacturer Part Number: NRF52832-QFAA-R7; Supplier Part Number 1: 1490-1067-1-ND
footprint VFQFN_48_6x6mm (QFN48_6x6mm Exposed Pad/ 20190222 / N-A.Potosi)
pins: 1 DEC1 (power), 2 P0.00/XL1 (io), 3 P0.01/XL2 (io), 4 P0.02/AIN0 (io), 5 P0.03/AIN1 (io), 6 P0.04/AIN2 (io), 7 P0.05/AIN3 (io), 8 P0.06 (io), 9 P0.07 (io), 10 P0.08 (io), 11 P0.09 (io), 12 P0.10 (io), 13 VDD (power), 14 P0.11 (io), 15 P0.12 (io), 16 P0.13 (io), 17 P0.14 (io), 18 P0.15 (io), 19 P0.16 (io), 20 P0.17 (io), 21 P0.18 (io), 22 P0.19 (io), 23 P0.20 (io), 24 P0.21/RESET (io), 25 SWDCLK (in), 26 SWDIO (io), 27 P0.22 (io), 28 P0.23 (io), 29 P0.24 (io), 30 ANT (io), 31 VSS (power), 32 DEC2 (power), 33 DEC3 (power), 34 XC1 (in), 35 XC2 (out), 36 VDD (power), 37 P0.25 (io), 38 P0.26 (io), 39 P0.27 (io), 40 P0.28/AIN4 (io), 41 P0.29/AIN5 (io), 42 P0.30/AIN6 (io), 43 P0.31/AIN7 (io), 44 N.C (power), 45 VSS (power), 46 DEC4 (power), 47 DCC (out), 48 VDD (power), 49 E_PAD (power)

## IC_NRF52833-QDAA-B-R
designator U?
IC RF TxRx + MCU 802.15.4, Bluetooth Bluetooth v5.3; Manufacturer: Nordic Semiconductor ASA; Manufacturer Part Number: NRF52833-QDAA-B-R; Supplier 1: Digi-Key; Supplier Part Number 1: 4823-NRF52833-QDAA-B-RCT-ND; Reel Stock: N/A; Last modified by: J.Jaramillo; Last modified date: 20240310; ComponentLink1Description: Digi-Key; ComponentLink1URL: https://www.digikey.com/en/products/detail/nordic-semiconductor-asa/NRF52833-QDAA-B-R/15998596; ComponentLink2Description: Datasheet; ComponentLink2URL: https://infocenter.nordicsemi.com/pdf/nRF52833_PS_v1.5.pdf
footprint VFQFN_40_5x5MM (20230725/ J.Jaramillo)
pins: 1 DEC1 (power), 2 P0.00/XL1 (io), 3 P0.01/XL2 (io), 4 P0.04/AIN2 (io), 5 P0.05/AIN3 (io), 6 P1.09 (io), 7 P0.11 (io), 8 VDD (power), 9 VDDH (power), 10 VBUS (power), 11 DECUSB (power), 12 D- (io), 13 D+ (io), 14 P0.15 (io), 15 P0.17 (io), 16 P0.18/nRESET (io), 17 P0.20 (io), 18 VDD (power), 19 SWDIO (io), 20 SWDCLK (in), 21 DEC5 (power), 22 P0.09/NFC1 (io), 23 P0.10/NFC2 (io), 24 ANT, 25 VSS_PA (power), 26 DEC6 (power), 27 DEC3 (power), 28 XC1 (in), 29 XC2 (in), 30 VDD (power), 31 P0.03/AIN1 (io), 32 P0.02/AIN0 (io), 33 P0.28/AIN4 (io), 34 P0.29/AIN5 (io), 35 P0.30/AIN6 (io), 36 P0.31/AIN7 (io), 37 VSS (power), 38 DEC4 (power), 39 DCC (power), 40 VDD (power), 41 VSS EP (power)

## IC_RF-SWITCH_50Ohm_SP8T_LTE
designator U?, comment SP8T
IC RF SWITCH SP8T ATSLP14-10; Manufacturer: Infineon Technologies; Manufacturer Part Number: BGS18MA14E6327XTSA1; Supplier 1: Digi-Key; Supplier Part Number 1: BGS18MA14E6327XTSA1CT-ND; Reel Stock: N/A; Last modified by: J.Jaramillo; Last modified date: 20240310; ComponentLink1Description: Digi-Key; ComponentLink1URL: https://www.digikey.com/product-detail/en/skyworks-solutions-inc/SKY13399-468LF/863-1579-1-ND/5214168
footprint UFQFN_14_2x2MM_EP (/ 20220615/ V-A.Patino)
pins: 1 VIO, 2 SDATA, 3 SCLK, 4 GND, 5 RF8, 6 RF7, 7 RF6, 8 RF5, 9 ANT, 10 RF1, 11 RF2, 12 RF3, 13 RF4, 14 VDD, 15 EP

## IC_SE2435L
designator U?, comment SE2435L-R
IC FRONT END 930MHZ ISM 24QFN; Manufacturer: Skyworks Solutions Inc.; Manufacturer Part Number: SE2435L-R; Supplier 1: Digi-key; Supplier Part Number 1: 863-1349-1-ND; Last modified by: J.Jaramillo; Last modified date: 20240310; ComponentLink1Description: Digi-Key; ComponentLink1URL: https://www.digikey.com/en/products/detail/skyworks-solutions-inc/SE2435L-R/2745507?s=N4IgTCBcDaIBwDYDMBaAjEgLATnSgcgCIgC6AvkA; Reel Stock: N/A
footprint VFQFN_24_4.0x4.0mm (24-VFQFN Exposed Pad / 20190222 / N-A.Potosi)
pins: 1 CSD, 2 PA_IN, 3 CPS, 4 CTX, 5 TX_FLT, 6 TR, 7 ANT_SEL, 8 GND, 9 LNA_IN, 10 N/C, 11 RX_FLT, 12 ANT2, 13 N/C, 14 ANT1, 15 N/C, 16 TX_IN, 17 N/C, 18 N/C, 19 N/C, 20 PA_OUT, 21 VCC2, 22 N/C, 23 VCC0, 24 VCC1, 25 PAD

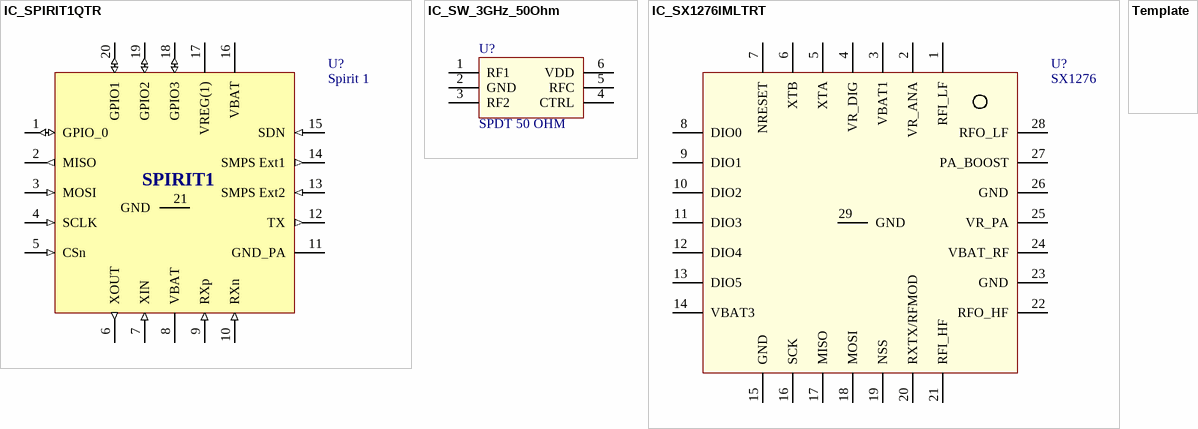
[diagram p3: symbols IC_SPIRIT1QTR to Template]

## IC_SPIRIT1QTR
designator U?, comment Spirit 1
IC RF TXRX ISM<1GHZ 20VFQFN; Manufacturer: STMicroelectronics; Manufacturer Part Number: SPIRIT1QTR; Supplier 1: Digi-Key; Supplier Part Number 1: 497-13383-1-ND; Reel Stock: N/A; Last modified by: J.Jaramillo; Last modified date: 20240310; ComponentLink1Description: Digi-Key; ComponentLink1URL: https://www.digikey.com/products/en?keywords=497-13383-1-ND
footprint VFQFN_20_4x4mm (/ 20190222 / N-A.Potosi)
pins: 1 GPIO_0 (io), 2 MISO (out), 3 MOSI (in), 4 SCLK (in), 5 CSn (in), 6 XOUT (out), 7 XIN (in), 8 VBAT, 9 RXp (in), 10 RXn (in), 11 GND_PA, 12 TX (out), 13 SMPS Ext2 (in), 14 SMPS Ext1 (out), 15 SDN (in), 16 VBAT, 17 VREG(1), 18 GPIO3 (io), 19 GPIO2 (io), 20 GPIO1 (io), 21 GND (power)
text: SPIRIT1

## IC_SW_3GHz_50Ohm
designator U?, comment SPDT 50 OHM
IC RF SWITCH SPDT 50 OHM SC70-6; Manufacturer: pSemi; Manufacturer Part Number: 4259-63; Supplier 1: Digi-Key; Supplier Part Number 1: 1046-1011-1-ND; Reel Stock: N/A; Last modified by: J.Jaramillo; Last modified date: 20240310; ComponentLink1Description: Digi-Key; ComponentLink1URL: https://www.digikey.com/products/en?keywords=1046-1011-1-ND
footprint TSSOP_6_2.1x2.0mm (SC-88, SOT-363,SC-70-6 / 20190222 / N-A.Potosi)
pins: 1 RF1, 2 GND, 3 RF2, 4 CTRL, 5 RFC, 6 VDD

## IC_SX1276IMLTRT
designator U?, comment SX1276
IC RF TXRX 802.15.4 28VQFN; Manufacturer: Semtech Corporation; Manufacturer Part Number: SX1276IMLTRT; Supplier 1: Digi-Key; Supplier Part Number 1: SX1276IMLTRTCT-ND; Reel Stock: N/A; Last modified by: J.Jaramillo; Last modified date: 20240310; ComponentLink2Description: Digi-Key; ComponentLink2URL: https://www.digikey.com/products/en?keywords=SX1276IMLTRTCT-ND%20
footprint VQFN_28_6x6mm (VQFN28_28 Exposed Pad  / 20190222 / N-A.Potosi)
pins: 1 RFI_LF, 2 VR_ANA, 3 VBAT1, 4 VR_DIG, 5 XTA, 6 XTB, 7 NRESET, 8 DIO0, 9 DIO1, 10 DIO2, 11 DIO3, 12 DIO4, 13 DIO5, 14 VBAT3, 15 GND, 16 SCK, 17 MISO, 18 MOSI, 19 NSS, 20 RXTX/RFMOD, 21 RFI_HF, 22 RFO_HF, 23 GND, 24 VBAT_RF, 25 VR_PA, 26 GND, 27 PA_BOOST, 28 RFO_LF, 29 GND

## Template
designator ?
Reel Stock: N/A; Last modified by: J.Jaramillo; Last modified date: 20240310